# EAGLE library part P82B96 (library micro-philips)
I2C Bus Driver Dual bi-directional I2C bus buffer
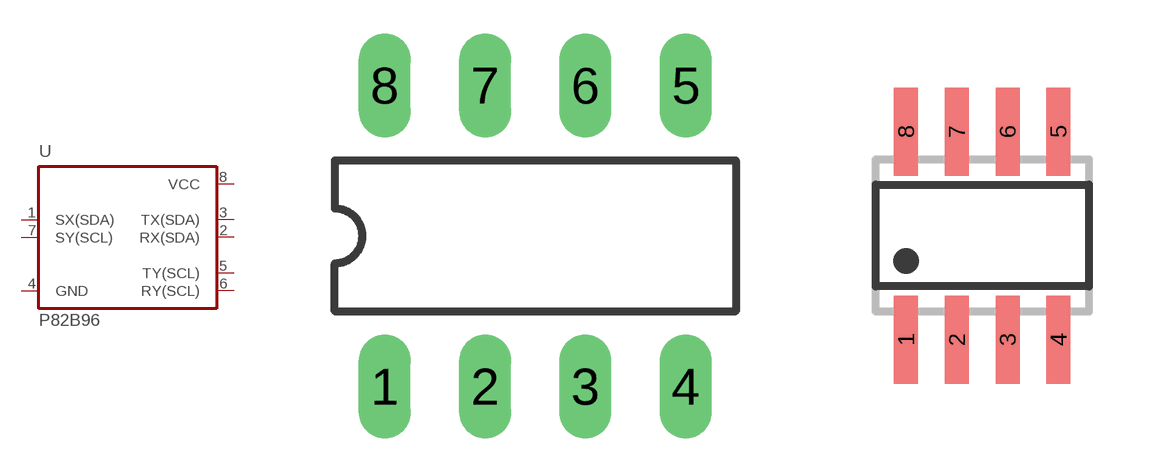
[diagram p25: symbol with the pads of DIL08; footprints DIL08, SO08]

Designator prefix U

## P82B96PN  [DIL08]
1  SX(SDA)
2  RX(SDA)  in
3  TX(SDA)  out
4  GND  pwr
5  TY(SCL)  out
6  RY(SCL)  in
7  SY(SCL)
8  VCC  pwr

## P82B96TD  [SO08]
Pads as for DIL08

## P82B96DP  [TSSOP8]
Pads as for DIL08

## Footprint DIL08 (pad centres in mm)
Dual In Line Package
drill 0.813 long: 1 -3.81,-3.81; 2 -1.27,-3.81; 3 1.27,-3.81; 4 3.81,-3.81; 5 3.81,3.81; 6 1.27,3.81; 7 -1.27,3.81; 8 -3.81,3.81

## Footprint SO08 (pad centres in mm)
SMALL OUTLINE INTEGRATED CIRCUIT body 3.9 mm/JEDEC MS-012AA
smd 0.6 x 2.2: 1 -1.905,-2.6; 2 -0.635,-2.6; 3 0.635,-2.6; 4 1.905,-2.6; 5 1.905,2.6; 6 0.635,2.6; 7 -0.635,2.6; 8 -1.905,2.6

## Footprint TSSOP8 (pad centres in mm)
Thin Shrink Small Outline Plastic 8
smd 0.35 x 1.2: 1 -0.975,-2.925; 2 -0.325,-2.925; 3 0.325,-2.925; 4 0.975,-2.925; 5 0.975,2.925; 6 0.325,2.925; 7 -0.325,2.925; 8 -0.975,2.925